# Altium footprint library Qbot.PcbLib: 10 footprints
Each footprint in its own frame and in the unit in brackets; x right, y up, seen from the top. Pads: shape width x height; smd on the part's side, far side on the other; paste and mask are expansions set on the pad; w line width, h text height; cw(c..) or ccw(c..) is an arc to the next point about the centre after c.
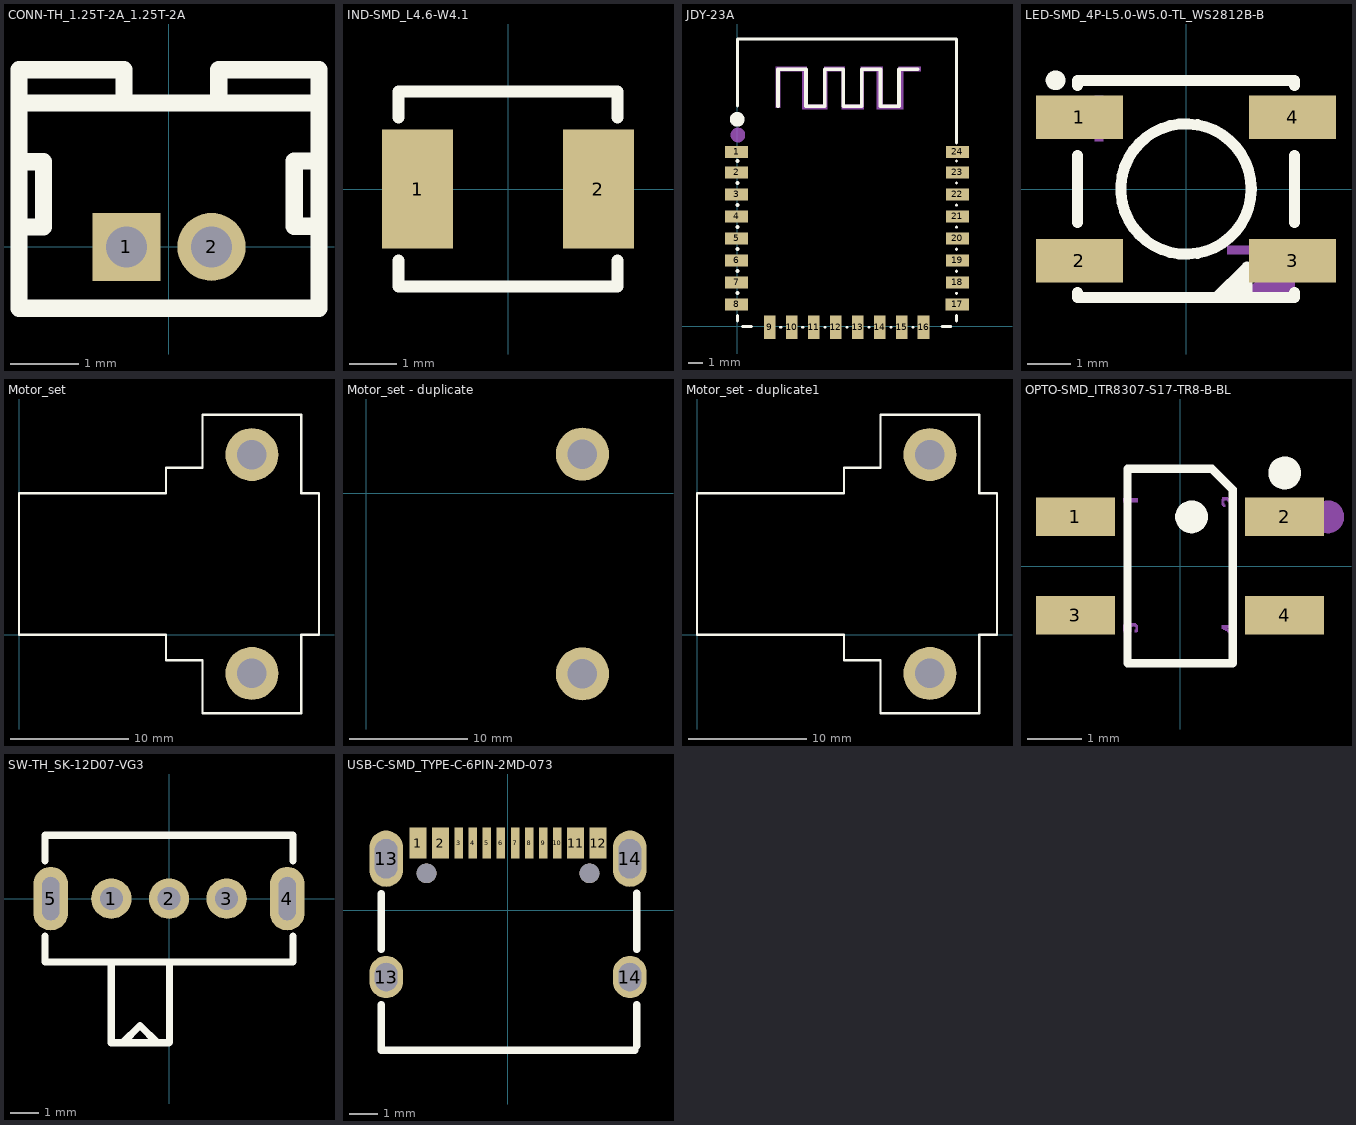
[diagram p0: the footprints below, top view; thin cyan lines are the x and y axes]

## CONN-TH_1.25T-2A_1.25T-2A [mm]
pads (2):
  rect 1x1 hole 0.6: 1(-0.625,0)
  round 1 hole 0.6: 2(0.625,0)
Top Overlay:
  lines w0.254: -2.201,1.25 -1.84,1.25 -1.84,0.29 -2.16,0.29 ; -2.2,2.111 2.2,2.111 ; -0.66,2.12 -0.66,2.6 -2.2,2.6 -2.2,-0.9 2.2,-0.9 ; 0.73,2.12 0.73,2.6 2.2,2.6 ; 2.16,0.3 1.84,0.301 1.84,1.26 2.201,1.26 ; 2.203,2.598 2.203,-0.902

## IND-SMD_L4.6-W4.1 [mm]
pads (2):
  rect 1.5x2.5 smd: 1(-1.9,0) 2(1.9,0)
Top Overlay:
  lines w0.254: -2.3,-1.5 -2.3,-2.05 2.3,-2.05 2.3,-1.5 ; -2.3,1.5 -2.3,2.05 2.3,2.05 ; 2.3,1.5 2.3,2.049

## JDY-23A [mm] "JDY-23A"
pads (24):
  rect 1.6x0.8 smd: 1(-0.06,11.9) 2(-0.06,10.5) 3(-0.06,9) 4(-0.06,7.5) 5(-0.06,6) 6(-0.06,4.5) 7(-0.06,3) 17(15,1.5) 18(15.01,3) 19(15.01,4.5) 20(15.01,6) 21(15.01,7.5) 22(15.01,9) 23(15.01,10.5) 24(15.01,11.9)
  rect 1.6x0.8 smd paste+0: 8(-0.06,1.5)
  rect 0.8x1.6 smd paste+0: 9(2.2,-0.06) 10(3.7,-0.06) 11(5.2,-0.06) 12(6.7,-0.06) 13(8.2,-0.06) 14(9.7,-0.06) 15(11.2,-0.06) 16(12.7,-0.06)
Top Overlay:
  circle w0.5: c-0.011,14.121 r0.25
  lines w0.2: 0,0.36 0,0.751 ; 0,15.03 0,19.6 14.94,19.6 14.94,12.5 ; 0.36,0 0.96,0 ; 2.95,-0.06 2.96,-0.06 ; 4.453,-0.06 4.463,-0.06 ; 5.956,-0.06 5.967,-0.06 ; 7.46,-0.06 7.47,-0.06 ; 8.963,-0.06 8.973,-0.06 ; 10.466,-0.06 10.477,-0.06 ; 11.97,-0.06 11.98,-0.06 ; 13.95,0 14.55,0 ; 14.94,0.36 14.94,0.751 ; 14.94,2.25 14.94,2.26 ; 14.94,3.753 14.94,3.764 ; 14.94,5.257 14.94,5.267 ; 14.94,6.76 14.94,6.77 ; 14.94,8.263 14.94,8.274 ; 14.94,9.767 14.94,9.777 ; 14.94,11.27 14.94,11.28
  lines w0.254: 0,2.26 0,2.27 ; 0,3.763 0,3.773 ; 0,5.267 0,5.277 ; 0,6.77 0,6.78 ; 0,8.273 0,8.283 ; 0,9.777 0,9.787 ; 0,11.28 0,11.29 ; 2.774,15.005 2.774,17.545 4.679,17.545 4.679,15.005 5.949,15.005 5.949,17.545 7.219,17.545 7.219,15.005 8.489,15.005 8.489,17.545 9.759,17.545 9.759,15.005 11.029,15.005 11.029,17.545 12.299,17.545
Mechanical 15:
  circle w0.5: c0.035,13.052 r0.25
  region: 2.619,15.015 2.619,17.715 4.719,17.715 4.719,15.115 5.919,15.115 5.919,17.715 7.319,17.715 7.319,15.115 8.419,15.115 8.419,17.715 9.919,17.715 9.919,15.115 11.019,15.115 11.019,17.715 12.519,17.715 12.519,17.415 11.319,17.415 11.319,14.815 9.519,14.815 9.519,17.415 8.619,17.415 8.619,14.815 7.119,14.815 7.119,17.415 6.119,17.415 6.119,14.815 4.419,14.815 4.419,17.415 2.919,17.415 2.919,14.915 2.619,14.915

## LED-SMD_4P-L5.0-W5.0-TL_WS2812B-B [mm]
pads (4):
  rect 2x1 smd: 1(-2.45,1.65) 2(-2.45,-1.65) 3(2.45,-1.65) 4(2.45,1.65)
Top Overlay:
  circle w0.254: c-3,2.5 r0.1
  circle w0.254: c0.001,0 r1.5
  region: 1.4,-1.8 1.4,-2.4 1.3,-2.5 0.7,-2.5
  lines w0.254: -2.5,-2.38 -2.5,-2.5 2.5,-2.5 2.5,-2.38 ; -2.5,-0.77 -2.5,0.77 ; -2.5,2.38 -2.5,2.5 2.5,2.5 2.5,2.38 ; 2.5,-0.77 2.5,0.77 ; 0.7,-2.5 1.4,-1.8 1.4,-2.5 0.7,-2.5
Mechanical 15:
  circle w0.24: c-2.8,1.9 r0.12
  region: -2.1,1.1 -2.1,2.15 -1.9,2.15 -1.9,1.1
  region: 2,-1.5 0.95,-1.5 0.95,-1.3 2,-1.3
  region: -2.525,1.725 -1.475,1.725 -1.475,1.525 -2.525,1.525
  region: 2.5,-1.3 2.5,-2.5 1.2,-2.5

## Motor_set [mm]
pads (2):
  round 4.5 hole 2.5: ""(19.8,-3.3) ""(19.8,15.3)
Top Overlay:
  lines w0.2: 0,0 0,12 12.5,12 12.5,14.175 15.6,14.175 15.6,18.7 24,18.7 24,12 25.5,12 25.5,0 24,0 24,-6.7 15.6,-6.7 15.6,-2.175 12.5,-2.175 12.5,0 0,0

## Motor_set - duplicate [mm]
pads (2):
  round 4.5 hole 2.5: ""(18.3,-15.3) ""(18.3,3.3)
Bottom Overlay:
  lines w0.2: 0,-12 11,-12 11,-14.175 14.1,-14.175 14.1,-18.7 22.5,-18.7 22.5,-12 24,-12 24,0 22.5,0 22.5,6.7 14.1,6.7 14.1,2.175 11,2.175 11,0 0,0 0,-12

## Motor_set - duplicate1 [mm]
pads (2):
  round 4.5 hole 2.5: ""(19.8,-3.3) ""(19.8,15.3)
Top Overlay:
  lines w0.2: 0,0 12.5,0 12.5,-2.175 15.6,-2.175 15.6,-6.7 24,-6.7 24,0 25.5,0 25.5,12 24,12 24,18.7 15.6,18.7 15.6,14.175 12.5,14.175 12.5,12 0,12 0,0

## OPTO-SMD_ITR8307-S17-TR8-B-BL [mm]
pads (4):
  rect 1.443x0.7 smd: 1(-1.912,0.9) 2(1.912,0.9) 3(-1.912,-0.9) 4(1.912,-0.9)
Top Overlay:
  circle w0.3: c1.912,1.702 r0.15
  circle w0.3: c0.209,0.9 r0.15
  lines w0.152: -0.961,-1.776 0.961,-1.776 0.961,1.399 0.584,1.776 -0.961,1.776 -0.961,-1.776
Mechanical 15:
  drawing of 76 lines, arcs and shapes, not listed

## SW-TH_SK-12D07-VG3 [mm]
pads (5):
  round 1.4 hole 0.8: 1(-2,0) 2(0,0) 3(2,0)
  oval 1.2x2.2 hole 0.6 slot 1.5 at 90 deg: 4(4.1,0) 5(-4.1,0)
Top Overlay:
  lines w0.254: -4.3,-1.307 -4.3,-2.2 4.3,-2.2 4.3,-1.307 ; -4.3,1.307 -4.3,2.2 4.3,2.2 4.3,1.307 ; -2,-2.2 -2,-4 -2,-5 0,-5 0.015,-4.985 0.015,-2.2 ; -1.605,-5 -1.005,-4.4 -0.405,-5

## USB-C-SMD_TYPE-C-6PIN-2MD-073 [mm]
pads (18):
  rect 0.6x1.1 smd: 1(-3.2,2.375) 2(-2.4,2.375) 11(2.4,2.375) 12(3.2,2.375)
  rect 0.3x1.1 smd: 3(-1.75,2.375) 4(-1.25,2.375) 5(-0.75,2.375) 6(-0.25,2.375) 7(0.25,2.375) 8(0.75,2.375) 9(1.25,2.375) 10(1.75,2.375)
  oval 1.2x1.5 hole 0.8 slot 1 at 90 deg: 13(-4.325,-2.375) 14(4.325,-2.375)
  oval 1.2x2 hole 0.8 slot 1.4 at 90 deg: 13(-4.325,1.825) 14(4.325,1.825)
  round 0.7 hole 0.7 unplated: ""(-2.89,1.305) ""(2.89,1.305)
Top Overlay:
  lines w0.254: -4.5,-3.356 -4.5,-4.975 4.5,-4.975 ; -4.5,-1.394 -4.5,0.594 ; 4.572,-4.826 4.572,-3.353 ; 4.572,-1.397 4.572,0.597
Top Paste:
  region: -3.5,2.925 -2.9,2.925 -2.9,1.825 -3.5,1.825
  region: -2.7,2.925 -2.1,2.925 -2.1,1.825 -2.7,1.825
  region: -1.9,2.925 -1.6,2.925 -1.6,1.825 -1.9,1.825
  region: -1.4,2.925 -1.1,2.925 -1.1,1.825 -1.4,1.825
  region: -0.9,2.925 -0.6,2.925 -0.6,1.825 -0.9,1.825
  region: -0.4,2.925 -0.1,2.925 -0.1,1.825 -0.4,1.825
  region: 0.1,2.925 0.4,2.925 0.4,1.825 0.1,1.825
  region: 0.6,2.925 0.9,2.925 0.9,1.825 0.6,1.825
  region: 1.1,2.925 1.4,2.925 1.4,1.825 1.1,1.825
  region: 1.6,2.925 1.9,2.925 1.9,1.825 1.6,1.825
  region: 2.1,2.925 2.7,2.925 2.7,1.825 2.1,1.825
  region: 2.9,2.925 3.5,2.925 3.5,1.825 2.9,1.825
  region: 3.725,-2.225 3.725,-2.106 3.816,-1.885 3.985,-1.716 4.206,-1.625 4.444,-1.625 4.665,-1.716 4.834,-1.885 4.925,-2.106 4.925,-2.225 4.925,-2.525 4.925,-2.644 4.834,-2.865 4.665,-3.034 4.444,-3.125 4.206,-3.125 3.985,-3.034 3.816,-2.865 3.725,-2.644 3.725,-2.525
  region: -4.925,-2.225 -4.925,-2.106 -4.834,-1.885 -4.665,-1.716 -4.444,-1.625 -4.206,-1.625 -3.985,-1.716 -3.816,-1.885 -3.725,-2.106 -3.725,-2.225 -3.725,-2.525 -3.725,-2.644 -3.816,-2.865 -3.985,-3.034 -4.206,-3.125 -4.444,-3.125 -4.665,-3.034 -4.834,-2.865 -4.925,-2.644 -4.925,-2.525
  region: 3.725,2.225 3.725,2.344 3.816,2.565 3.985,2.734 4.206,2.825 4.444,2.825 4.665,2.734 4.834,2.565 4.925,2.344 4.925,2.225 4.925,1.425 4.925,1.306 4.834,1.085 4.665,0.916 4.444,0.825 4.206,0.825 3.985,0.916 3.816,1.085 3.725,1.306 3.725,1.425
  region: -4.925,2.225 -4.925,2.344 -4.834,2.565 -4.665,2.734 -4.444,2.825 -4.206,2.825 -3.985,2.734 -3.816,2.565 -3.725,2.344 -3.725,2.225 -3.725,1.425 -3.725,1.306 -3.816,1.085 -3.985,0.916 -4.206,0.825 -4.444,0.825 -4.665,0.916 -4.834,1.085 -4.925,1.306 -4.925,1.425
Mechanical 15:
  circle w0.25: c2.89,1.305 r0.125
  circle w0.25: c-2.89,1.305 r0.125